# Altium schematic symbol library SCH - POWER - SWITCHMODE - TI TPS54329DDA.SchLib: 1 symbol
Pins are listed as number, name and electrical type; pins without a type are passive.

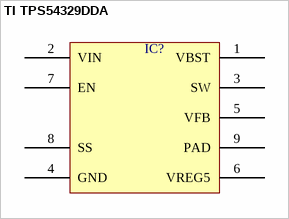
[diagram p0: symbol TI TPS54329DDA]

## TI TPS54329DDA
designator IC?  (value not drawn)
pins: 1 VBST, 2 VIN, 3 SW, 4 GND, 5 VFB, 6 VREG5, 7 EN, 8 SS, 9 PAD